# EAGLE library part DPDT_RELAY (library PP_Electromechanical)
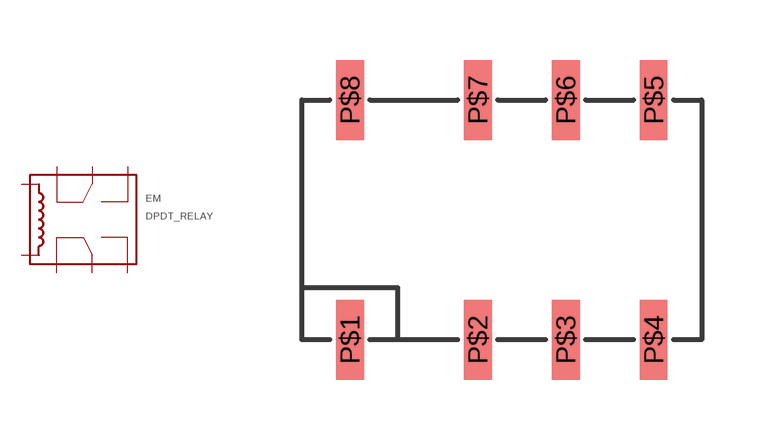
[diagram p3: symbol with the pads of IM_RELAY; footprint IM_RELAY]

Designator prefix EM

## DPDT_RELAY_IM_RELAY  [IM_RELAY]
P$1  POS
P$2  2
P$3  3
P$4  4
P$5  5
P$6  6
P$7  7
P$8  NEG

## Footprint IM_RELAY (pad centres in mm)
smd 0.7 x 2: P$1 -3.8,-3; P$2 -0.6,-3; P$3 1.6,-3; P$4 3.8,-3; P$5 3.8,3; P$6 1.6,3; P$7 -0.6,3; P$8 -3.8,3